# Altium footprint library BM71BLES1FC2.PcbLib: 1 footprints
Each footprint in its own frame and in the unit in brackets; x right, y up, seen from the top. Pads: shape width x height; smd on the part's side, far side on the other; paste and mask are expansions set on the pad; w line width, h text height; cw(c..) or ccw(c..) is an arc to the next point about the centre after c.
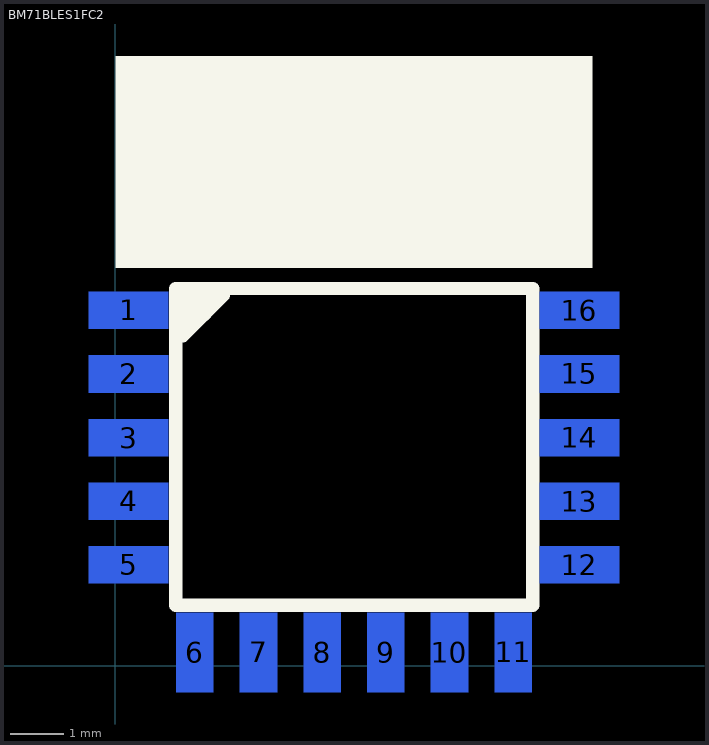
[diagram p0: the footprint, top view; thin cyan lines are the x and y axes]

## BM71BLES1FC2 [mm] "Bluetooth Module"
pads (16):
  rect 1.5x0.7 smd far side: 1(0.25,6.7) 2(0.25,5.5) 3(0.25,4.3) 4(0.25,3.1) 5(0.25,1.9) 12(8.75,1.9) 13(8.75,3.1) 14(8.75,4.3) 15(8.75,5.5) 16(8.75,6.7)
  rect 0.7x1.5 smd far side: 6(1.5,0.25) 7(2.7,0.25) 8(3.9,0.25) 9(5.1,0.25) 10(6.3,0.25) 11(7.5,0.25)
Top Overlay:
  rectangle: 0,7.5 9,11.5
  lines w0.254: 1.651,6.858 1.651,6.985 1.524,6.858 1.524,6.604 1.46,6.54 1.46,6.794 1.524,6.731 1.778,6.731 1.651,6.604 1.27,6.985 ; 1.27,6.985 2.032,6.985 1.27,6.223 1.27,6.985 ; 1.143,1.143 1.143,7.112 7.874,7.112 7.874,1.143 1.143,1.143